# EAGLE library part LM3S1607 (library custom)
The Stellaris® LM3S1607 microcontroller is based on the ARM® Cortex?-M3 controller core operating at up to 50 MHz, with 128 kB flash, 32 kB SRAM, a 32-ch DMA, and ROM preloaded with the StellarisWare Driver Library and BootLoader. The LM3S1607 also features real-time industrial connectivity, with an SSI / SPI controller, 2 I2C interfaces, and 3 UARTs. The microcontroller also features intelligent analog capability, including 8 channels of highly accurate 10-bit analog-to-digital conversion - with the ability to sample at speeds of 500K samples per second. Finally, the LM3S1607 microcontroller provides a 24-bit systick timer, 4 32-bit or 8 16-bit general-purpose timers, a watchdog timer, a battery-backed hibernation module with RTC and 256 bytes of non-volatile state-saving memory, a low drop-out voltage regulator so that only one supply voltage is required, brown-out reset, power-on reset controller, and up to 33 GPIOs. Features 32-bit ARM® Cortex?-M3 50-MHz processor core with System Timer (SysTick), integrated Nested Vectored Interrupt Controller (NVIC), Memory Protection Unit (MPU), and Thumb-2 instruction set Full-featured debug solution with debug access via JTAG and Serial Wire interfaces, and IEEE 1149.1-1990 compliant Test Access Port (TAP) controller 128 KB single-cycle flash and 32 KB single-cycle SRAM Internal ROM loaded with StellarisWare® software Lower-power battery-backed Hibernation module with Real-Time Clock ARM PrimeCell® 32-channel configurable µDMA controller 0-33 GPIOs (depending on configuration) with programmable control for GPIO interrupts and pad configuration ARM FiRM-compliant Watchdog Timer ; plus four General-Purpose Timer Modules (GPTM), each of which provides two 16-bit timers/counters and can be configured to operate independently 10-bit Analog-to-Digital Converter (ADC) with eight analog input channels and a sample rate of 500 thousand samples/second Three fully programmable 16C550-type UARTs with IrDA support Synchronous Serial Interface (SSI), supporting operation for Freescale SPI, MICROWIRE, or Texas Instruments synchronous serial interfaces Two Inter-Integrated Circuit (I2C) Interface modules, providing Standard (100 Kbps) and Fast (400 Kbps) transmission and support for sending and receiving data as either a master or a slave Industrial-range 64-pin RoHS-compliant LQFP package
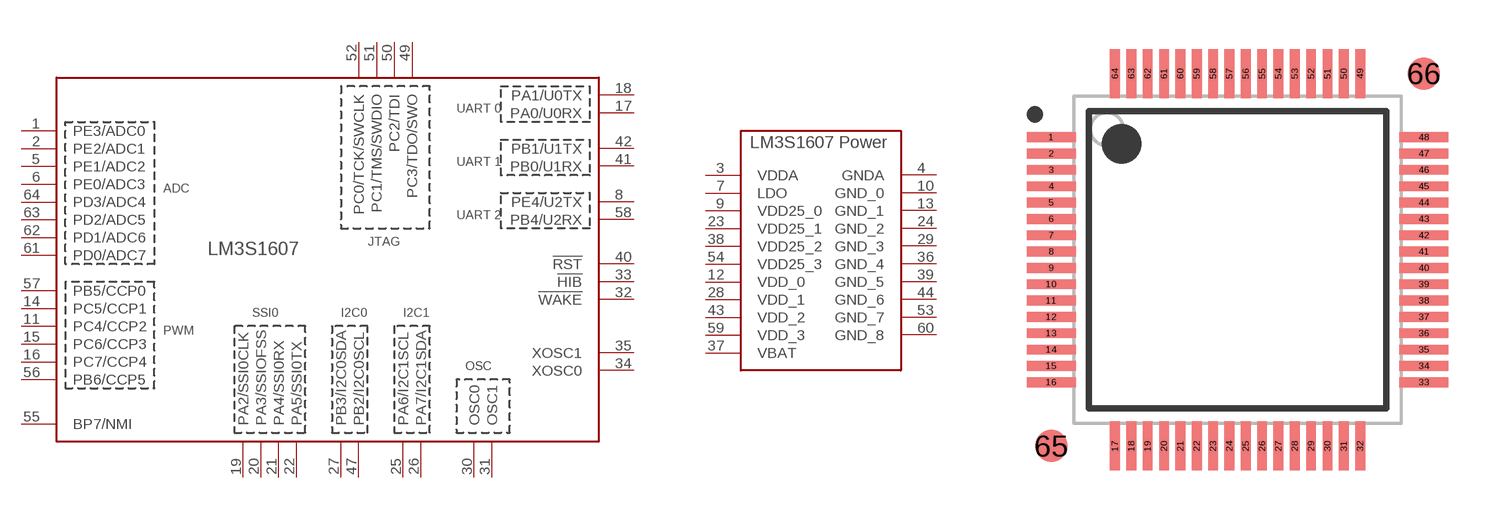
[diagram p7: symbol with the pads of 64-QFP; footprint 64-QFP]

Designator prefix -; gates G$1=LM3S1607 G$2=LM3S1607_PWR

## LM3S160764-LQFP  [64-QFP]
1  G$1:PE3/ADC0
2  G$1:PE2/ADC1
3  G$2:VDDA
4  G$2:GNDA
5  G$1:PE1/ADC2
6  G$1:PE0/ADC3
7  G$2:LDO
8  G$1:PE4/U2TX
9  G$2:VDD25_0  pwr
10  G$2:GND_0
11  G$1:PC4/CCP2
12  G$2:VDD_0
13  G$2:GND_1
14  G$1:PC5/CCP1
15  G$1:PC6/CCP3
16  G$1:PC7/CCP4
17  G$1:PA0/U0RX
18  G$1:PA1/U0TX
19  G$1:PA2/SSI0CLK
20  G$1:PA3/SSIOFSS
21  G$1:PA4/SSI0RX
22  G$1:PA5/SSI0TX
23  G$2:VDD25_1  pwr
24  G$2:GND_2
25  G$1:PA6/I2C1SCL
26  G$1:PA7/I2C1SDA
27  G$1:PB3/I2C0SDA
28  G$2:VDD_1
29  G$2:GND_3
30  G$1:OSC0
31  G$1:OSC1
32  G$1:!WAKE
33  G$1:!HIB
34  G$1:XOSC0
35  G$1:XOSC1
36  G$2:GND_4
37  G$2:VBAT
38  G$2:VDD25_2  pwr
39  G$2:GND_5
40  G$1:!RST
41  G$1:PB0/U1RX
42  G$1:PB1/U1TX
43  G$2:VDD_2
44  G$2:GND_6
47  G$1:PB2/I2C0SCL
49  G$1:PC3/TDO/SWO
50  G$1:PC2/TDI
51  G$1:PC1/TMS/SWDIO
52  G$1:PC0/TCK/SWCLK
53  G$2:GND_7
54  G$2:VDD25_3  pwr
55  G$1:BP7/NMI
56  G$1:PB6/CCP5
57  G$1:PB5/CCP0
58  G$1:PB4/U2RX
59  G$2:VDD_3
60  G$2:GND_8
61  G$1:PD0/ADC7
62  G$1:PD1/ADC6
63  G$1:PD2/ADC5
64  G$1:PD3/ADC4

## Footprint 64-QFP (pad centres in mm)
PCB Libraries Package
smd 1.5 x 0.3: 1 -5.7,3.75; 2 -5.7,3.25; 3 -5.7,2.75; 4 -5.7,2.25; 5 -5.7,1.75; 6 -5.7,1.25; 7 -5.7,0.75; 8 -5.7,0.25; 9 -5.7,-0.25; 10 -5.7,-0.75; 11 -5.7,-1.25; 12 -5.7,-1.75; 13 -5.7,-2.25; 14 -5.7,-2.75; 15 -5.7,-3.25; 16 -5.7,-3.75; 33 5.7,-3.75; 34 5.7,-3.25; 35 5.7,-2.75; 36 5.7,-2.25; 37 5.7,-1.75; 38 5.7,-1.25; 39 5.7,-0.75; 40 5.7,-0.25; 41 5.7,0.25; 42 5.7,0.75; 43 5.7,1.25; 44 5.7,1.75; 45 5.7,2.25; 46 5.7,2.75; 47 5.7,3.25; 48 5.7,3.75
smd 0.3 x 1.5: 17 -3.75,-5.7; 18 -3.25,-5.7; 19 -2.75,-5.7; 20 -2.25,-5.7; 21 -1.75,-5.7; 22 -1.25,-5.7; 23 -0.75,-5.7; 24 -0.25,-5.7; 25 0.25,-5.7; 26 0.75,-5.7; 27 1.25,-5.7; 28 1.75,-5.7; 29 2.25,-5.7; 30 2.75,-5.7; 31 3.25,-5.7; 32 3.75,-5.7; 49 3.75,5.7; 50 3.25,5.7; 51 2.75,5.7; 52 2.25,5.7; 53 1.75,5.7; 54 1.25,5.7; 55 0.75,5.7; 56 0.25,5.7; 57 -0.25,5.7; 58 -0.75,5.7; 59 -1.25,5.7; 60 -1.75,5.7; 61 -2.25,5.7; 62 -2.75,5.7; 63 -3.25,5.7; 64 -3.75,5.7
smd 1 x 1: 65 -5.7,-5.7; 66 5.7,5.7